# Altium schematic symbol library LM1117.SchLib: 1 symbol
Pins are listed as number, name and electrical type; pins without a type are passive.

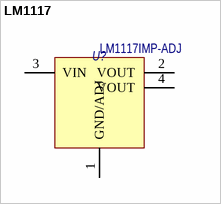
[diagram p0: symbol LM1117]

## LM1117
designator U?, comment LM1117IMP-ADJ
800mA Low-Dropout Linear Regulator; Потребление,Вт: 0.1; Назначение: 800mA Low-Dropout Linear Regulator; Наименование: LM1117IMP-ADJ
footprint SOT-223 (SOT223, 4-Leads, Body 6,50x7,00mm (avg), Pitch 2,30mm, IPC Medium Density)
footprint TO-252
pins: 1 GND/ADJ (power), 2 VOUT (power), 3 VIN (power), 4 VOUT (power)